# EAGLE library part STM32L431CCT6 (library STM32L431CCT6)
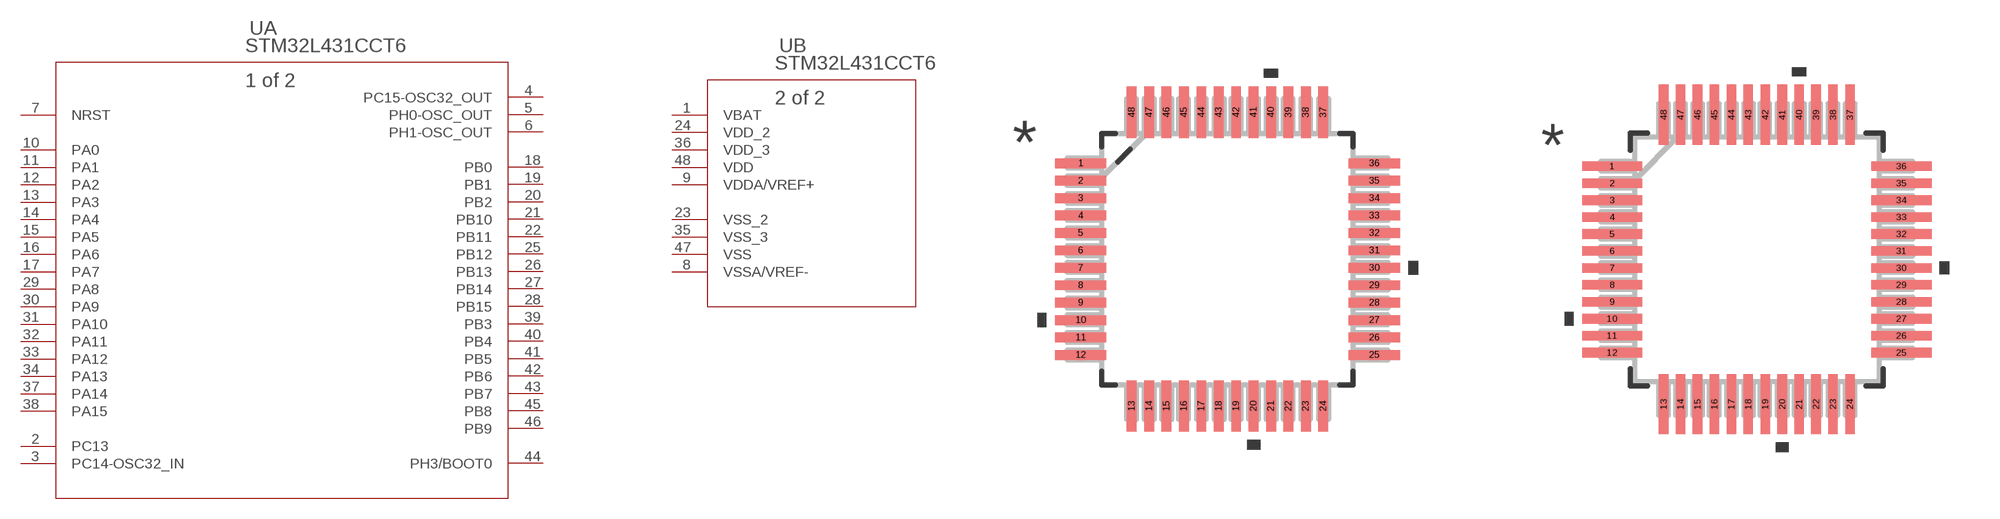
[diagram p0: symbol with the pads of LQFP-48; footprints LQFP-48, LQFP-48-M]

Designator prefix U; gates A=STM32L431CCT6 B=STM32L431CCT6_A

## STM32L431CCT6 (BUILT_BY: EMA_UL_Team; COPYRIGHT: Copyright (C) 2018 Accelerated Designs. All rights reserved; MANUFACTURER_PART_NUMBER: STM32L431CCT6; SOURCELIBRARY: Updates_to_database_2020-10-19; VENDOR: STMicroelectronics)  [LQFP-48]
1  B:VBAT  pwr
2  A:PC13
3  A:PC14-OSC32_IN
4  A:PC15-OSC32_OUT
5  A:PH0-OSC_OUT
6  A:PH1-OSC_OUT
7  A:NRST
8  B:VSSA/VREF-  pwr
9  B:VDDA/VREF+  pwr
10  A:PA0
11  A:PA1
12  A:PA2
13  A:PA3
14  A:PA4
15  A:PA5
16  A:PA6
17  A:PA7
18  A:PB0
19  A:PB1
20  A:PB2
21  A:PB10
22  A:PB11
23  B:VSS_2  pwr
24  B:VDD_2  pwr
25  A:PB12
26  A:PB13
27  A:PB14
28  A:PB15
29  A:PA8
30  A:PA9
31  A:PA10
32  A:PA11
33  A:PA12
34  A:PA13
35  B:VSS_3  pwr
36  B:VDD_3  pwr
37  A:PA14
38  A:PA15
39  A:PB3
40  A:PB4
41  A:PB5
42  A:PB6
43  A:PB7
44  A:PH3/BOOT0
45  A:PB8
46  A:PB9
47  B:VSS  pwr
48  B:VDD  pwr

## STM32L431CCT6LQFP-48-M (BUILT_BY: EMA_UL_Team; COPYRIGHT: Copyright (C) 2018 Accelerated Designs. All rights reserved; MANUFACTURER_PART_NUMBER: STM32L431CCT6; SOURCELIBRARY: Updates_to_database_2020-10-19; VENDOR: STMicroelectronics)  [LQFP-48-M]
Pads as for LQFP-48

## STM32L431CCT6LQFP-48-L (BUILT_BY: EMA_UL_Team; COPYRIGHT: Copyright (C) 2018 Accelerated Designs. All rights reserved; MANUFACTURER_PART_NUMBER: STM32L431CCT6; SOURCELIBRARY: Updates_to_database_2020-10-19; VENDOR: STMicroelectronics)  [LQFP-48-L]
Pads as for LQFP-48

## Footprint LQFP-48 (pad centres in mm)
smd 1.473 x 0.279: 1 -4.216,2.75; 2 -4.216,2.25; 3 -4.216,1.75; 4 -4.216,1.25; 5 -4.216,0.75; 6 -4.216,0.25; 7 -4.216,-0.25; 8 -4.216,-0.75; 9 -4.216,-1.25; 10 -4.216,-1.75; 11 -4.216,-2.25; 12 -4.216,-2.75; 25 4.216,-2.75; 26 4.216,-2.25; 27 4.216,-1.75; 28 4.216,-1.25; 29 4.216,-0.75; 30 4.216,-0.25; 31 4.216,0.25; 32 4.216,0.75; 33 4.216,1.25; 34 4.216,1.75; 35 4.216,2.25; 36 4.216,2.75
smd 0.279 x 1.473: 13 -2.75,-4.216; 14 -2.25,-4.216; 15 -1.75,-4.216; 16 -1.25,-4.216; 17 -0.75,-4.216; 18 -0.25,-4.216; 19 0.25,-4.216; 20 0.75,-4.216; 21 1.25,-4.216; 22 1.75,-4.216; 23 2.25,-4.216; 24 2.75,-4.216; 37 2.75,4.216; 38 2.25,4.216; 39 1.75,4.216; 40 1.25,4.216; 41 0.75,4.216; 42 0.25,4.216; 43 -0.25,4.216; 44 -0.75,4.216; 45 -1.25,4.216; 46 -1.75,4.216; 47 -2.25,4.216; 48 -2.75,4.216

## Footprint LQFP-48-M (pad centres in mm)
smd 1.778 x 0.279: 1 -4.267,2.75; 2 -4.267,2.25; 3 -4.267,1.75; 4 -4.267,1.25; 5 -4.267,0.75; 6 -4.267,0.25; 7 -4.267,-0.25; 8 -4.267,-0.75; 9 -4.267,-1.25; 10 -4.267,-1.75; 11 -4.267,-2.25; 12 -4.267,-2.75; 25 4.267,-2.75; 26 4.267,-2.25; 27 4.267,-1.75; 28 4.267,-1.25; 29 4.267,-0.75; 30 4.267,-0.25; 31 4.267,0.25; 32 4.267,0.75; 33 4.267,1.25; 34 4.267,1.75; 35 4.267,2.25; 36 4.267,2.75
smd 0.279 x 1.778: 13 -2.75,-4.267; 14 -2.25,-4.267; 15 -1.75,-4.267; 16 -1.25,-4.267; 17 -0.75,-4.267; 18 -0.25,-4.267; 19 0.25,-4.267; 20 0.75,-4.267; 21 1.25,-4.267; 22 1.75,-4.267; 23 2.25,-4.267; 24 2.75,-4.267; 37 2.75,4.267; 38 2.25,4.267; 39 1.75,4.267; 40 1.25,4.267; 41 0.75,4.267; 42 0.25,4.267; 43 -0.25,4.267; 44 -0.75,4.267; 45 -1.25,4.267; 46 -1.75,4.267; 47 -2.25,4.267; 48 -2.75,4.267

## Footprint LQFP-48-L (pad centres in mm)
smd 1.168 x 0.229: 1 -4.166,2.75; 2 -4.166,2.25; 3 -4.166,1.75; 4 -4.166,1.25; 5 -4.166,0.75; 6 -4.166,0.25; 7 -4.166,-0.25; 8 -4.166,-0.75; 9 -4.166,-1.25; 10 -4.166,-1.75; 11 -4.166,-2.25; 12 -4.166,-2.75; 25 4.166,-2.75; 26 4.166,-2.25; 27 4.166,-1.75; 28 4.166,-1.25; 29 4.166,-0.75; 30 4.166,-0.25; 31 4.166,0.25; 32 4.166,0.75; 33 4.166,1.25; 34 4.166,1.75; 35 4.166,2.25; 36 4.166,2.75
smd 0.229 x 1.168: 13 -2.75,-4.166; 14 -2.25,-4.166; 15 -1.75,-4.166; 16 -1.25,-4.166; 17 -0.75,-4.166; 18 -0.25,-4.166; 19 0.25,-4.166; 20 0.75,-4.166; 21 1.25,-4.166; 22 1.75,-4.166; 23 2.25,-4.166; 24 2.75,-4.166; 37 2.75,4.166; 38 2.25,4.166; 39 1.75,4.166; 40 1.25,4.166; 41 0.75,4.166; 42 0.25,4.166; 43 -0.25,4.166; 44 -0.75,4.166; 45 -1.25,4.166; 46 -1.75,4.166; 47 -2.25,4.166; 48 -2.75,4.166